# Altium footprint library halcyxn_lib_pcb.PcbLib: 35 footprints (part 1 of 3)
Each footprint in its own frame and in the unit in brackets; x right, y up, seen from the top. Pads: shape width x height; smd on the part's side, far side on the other; paste and mask are expansions set on the pad; w line width, h text height; cw(c..) or ccw(c..) is an arc to the next point about the centre after c.
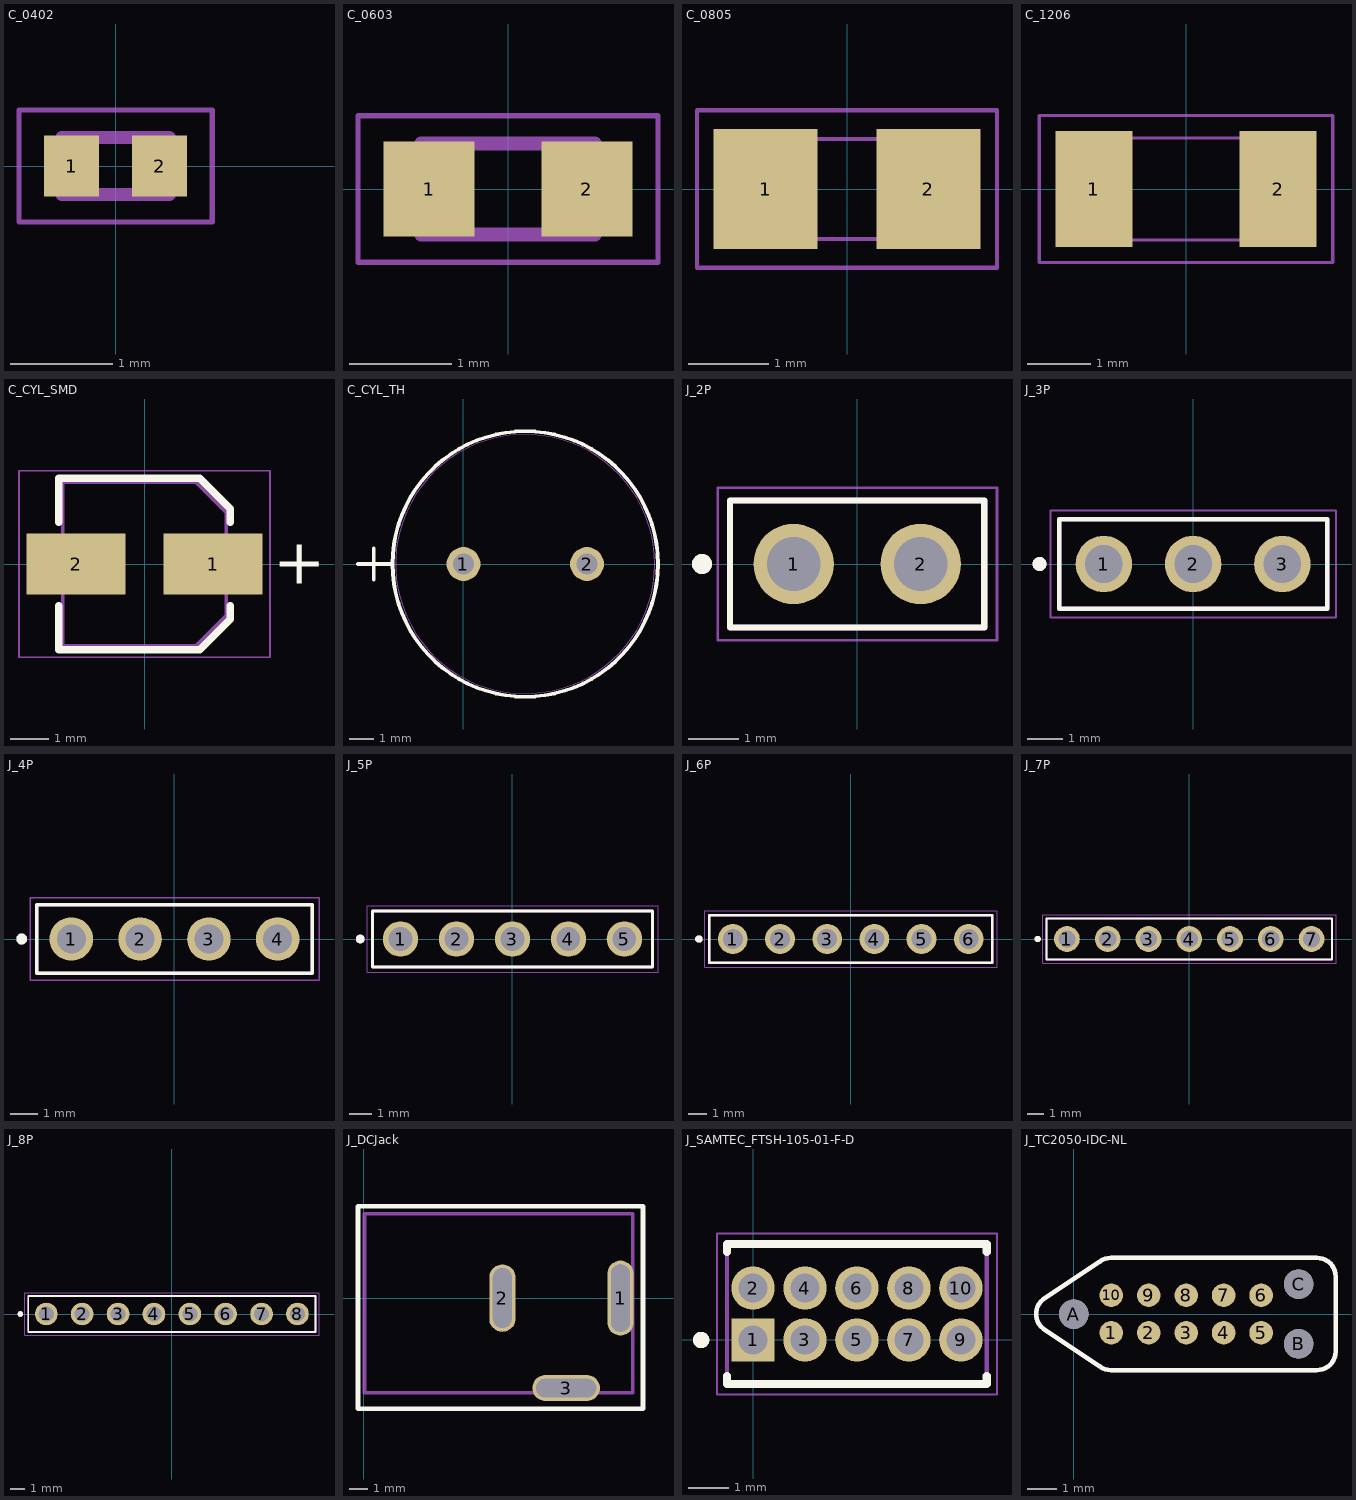
[diagram p0: the footprints below, top view; thin cyan lines are the x and y axes]

## C_0402 [mm]
pads (2):
  rect 0.54x0.6 smd: 1(-0.432,0) 2(0.432,0)
Top Overlay:
Top Component Outline:
  lines w0.051: -0.5,-0.25 0.5,-0.25 0.5,0.25 -0.5,0.25 -0.5,-0.25
Mechanical 13:
  lines w0.127: -0.53,-0.28 -0.53,0.28 0.53,0.28 0.53,-0.28 -0.53,-0.28
Mechanical 15:
  lines w0.05: -0.95,-0.55 -0.95,0.55 0.95,0.55 0.95,-0.55 -0.95,-0.55
3D body "step_temp.STEP": height 0.55, standoff 0, extent -0.5,-0.25 0.5,0.25

## C_0603 [mm]
pads (2):
  rect 0.89x0.93 smd: 1(-0.77,0) 2(0.77,0)
Top Component Outline:
  lines w0.051: -0.8,-0.4 0.8,-0.4 0.8,0.4 -0.8,0.4 -0.8,-0.4
Mechanical 13:
  lines w0.127: -0.85,-0.45 0.85,-0.45 0.85,0.45 -0.85,0.45 -0.85,-0.45
Mechanical 15:
  lines w0.05: -1.465,-0.715 1.465,-0.715 1.465,0.715 -1.465,0.715 -1.465,-0.715
3D body "GCM188R71H102KA37D.step": height 0.9, standoff 0, extent -0.8,-0.4 0.8,0.4

## C_0805 [mm]
pads (2):
  rect 1.3x1.5 smd: 1(-1.016,0) 2(1.016,0)
Top Component Outline:
  lines w0.05: -1,-0.625 1,-0.625 1,0.625 -1,0.625 -1,-0.625
Mechanical 15:
  lines w0.051: -1.873,-0.983 1.873,-0.983 1.873,0.983 -1.873,0.983 -1.873,-0.983
3D body "GCM21BR71H104KA37K.step": height 1.43, standoff -0.02, extent -1,-0.625 1,0.625

## C_1206 [mm]
pads (2):
  rect 1.21x1.82 smd: 1(-1.45,0) 2(1.45,0)
Top Component Outline:
  lines w0.05: -1.6,-0.8 -1.6,0.8 1.6,0.8 1.6,-0.8 -1.6,-0.8
Mechanical 15:
  lines w0.05: -2.308,-1.158 -2.308,1.158 2.308,1.158 2.308,-1.158 -2.308,-1.158
3D body "step_temp.STEP": height 1.8, standoff 0, extent -1.6,-0.8 1.6,0.8

## C_CYL_SMD [mm]
pads (2):
  rect 2.6x1.6 smd: 1(1.8,0) 2(-1.8,0)
Top Overlay:
  lines w0.2: -2.25,-1.1 -2.25,-2.25 1.45,-2.25 2.25,-1.45 2.25,-1.1 ; -2.25,1.1 -2.25,2.25 1.45,2.25 2.25,1.45 2.25,1.1
  text "+" at 3.386,-0.514 h1.2
Top Designator:
  lines w0.1: -2.15,-2.15 1.35,-2.15 2.15,-1.35 2.15,1.35 1.35,2.15 -2.15,2.15 -2.15,-2.15
Top Component Outline:
  lines w0.1: -2.15,-2.15 1.35,-2.15 2.15,-1.35 2.15,1.35 1.35,2.15 -2.15,2.15 -2.15,-2.15
Mechanical 15:
  lines w0.05: -3.3,-2.45 -3.3,2.45 3.3,2.45 3.3,-2.45 -3.3,-2.45
3D body "4x5.5x1.stp": height 5.5, standoff 0, extent -2.5,-2.15 2.5,2.15

## C_CYL_TH [mil] "Cylindrical capacitor, through-hole, 2-lead, polarized"
pads (2):
  round 54 / inner round 60 / far side round 54 hole 34 paste-99999 mask+0: 1(0,0) 2(196.85,0)
Top Overlay:
  circle w6: c98.43,0 r211.5
  lines w6: -168.07,0 -118.07,0 ; -143.07,-25 -143.07,25
Mechanical 13:
  circle w0: c98.43,0 r206.5
  lines w1: -168.07,0 -118.07,0 ; -143.07,-25 -143.07,25
3D body "CAP_YX_10X16_RUB.step": height 551.61, standoff -172.01, extent -108.55,-215.19 305.4,196.85

## J_2P [mm] "2-pin Dupont header"
height 9.64
pads (2):
  round 1.605 hole 1.07: 1(-1.27,0) 2(1.27,0)
Top Overlay:
  circle w0.2: c-3.1,0 r0.1
  lines w0.127: -2.54,-1.27 -2.54,1.27 2.54,1.27 2.54,-1.27 -2.54,-1.27
Mechanical 13:
  circle w0.2: c-3.1,0 r0.1
  lines w0.127: -2.54,-1.27 -2.54,1.27 2.54,1.27 2.54,-1.27 -2.54,-1.27
Mechanical 15:
  lines w0.05: -2.79,-1.52 -2.79,1.52 2.794,1.52 2.794,-1.52 -2.79,-1.52

## J_3P [mm] "3-pin Dupont header"
height 9.64
pads (3):
  round 1.605 hole 1.07: 1(-2.54,0) 2(0,0) 3(2.54,0)
Top Overlay:
  circle w0.2: c-4.37,0 r0.1
  lines w0.127: -3.81,-1.27 -3.81,1.27 3.81,1.27 3.81,-1.27 -3.81,-1.27
Mechanical 13:
  circle w0.2: c-4.37,0 r0.1
  lines w0.127: -3.81,-1.27 -3.81,1.27 3.81,1.27 3.81,-1.27 -3.81,-1.27
Mechanical 15:
  lines w0.05: -4.06,-1.52 -4.06,1.52 4.064,1.52 4.064,-1.52 -4.06,-1.52

## J_4P [mm] "4-pin Dupont header"
height 9.64
pads (4):
  round 1.605 hole 1.07: 1(-3.81,0) 2(-1.27,0) 3(1.27,0) 4(3.81,0)
Top Overlay:
  circle w0.2: c-5.64,0 r0.1
  lines w0.127: -5.08,-1.27 5.08,-1.27 5.08,1.27 -5.08,1.27 -5.08,-1.27
Mechanical 13:
  circle w0.2: c-5.64,0 r0.1
  lines w0.127: -5.08,-1.27 5.08,-1.27 5.08,1.27 -5.08,1.27 -5.08,-1.27
Mechanical 15:
  lines w0.05: -5.33,-1.52 5.334,-1.52 5.334,1.52 -5.33,1.52 -5.33,-1.52

## J_5P [mm] "5-pin Dupont header"
height 9.64
pads (5):
  round 1.605 hole 1.07: 1(-5.08,0) 2(-2.54,0) 3(0,0) 4(2.54,0) 5(5.08,0)
Top Overlay:
  circle w0.2: c-6.91,0 r0.1
  lines w0.127: -6.35,-1.27 -6.35,1.27 6.35,1.27 6.35,-1.27 -6.35,-1.27
Mechanical 13:
  circle w0.2: c-6.91,0 r0.1
  lines w0.127: -6.35,-1.27 -6.35,1.27 6.35,1.27 6.35,-1.27 -6.35,-1.27
Mechanical 15:
  lines w0.05: -6.6,-1.52 -6.6,1.52 6.604,1.52 6.604,-1.52 -6.6,-1.52

## J_6P [mm] "6-pin Dupont header"
height 9.64
pads (6):
  round 1.605 hole 1.07: 1(-6.35,0) 2(-3.81,0) 3(-1.27,0) 4(1.27,0) 5(3.81,0) 6(6.35,0)
Top Overlay:
  circle w0.2: c-8.18,0 r0.1
  lines w0.127: -7.62,-1.27 7.62,-1.27 7.62,1.27 -7.62,1.27 -7.62,-1.27
Mechanical 13:
  circle w0.2: c-8.18,0 r0.1
  lines w0.127: -7.62,-1.27 7.62,-1.27 7.62,1.27 -7.62,1.27 -7.62,-1.27
Mechanical 15:
  lines w0.05: -7.87,-1.52 7.874,-1.52 7.874,1.52 -7.87,1.52 -7.87,-1.52

## J_7P [mm] "7-pin Dupont header"
height 9.64
pads (7):
  round 1.605 hole 1.07: 1(-7.62,0) 2(-5.08,0) 3(-2.54,0) 4(0,0) 5(2.54,0) 6(5.08,0) 7(7.62,0)
Top Overlay:
  circle w0.2: c-9.45,0 r0.1
  lines w0.127: -8.89,-1.27 8.89,-1.27 8.89,1.27 -8.89,1.27 -8.89,-1.27
Mechanical 13:
  circle w0.2: c-9.45,0 r0.1
  lines w0.127: -8.89,-1.27 8.89,-1.27 8.89,1.27 -8.89,1.27 -8.89,-1.27
Mechanical 15:
  lines w0.05: -9.14,-1.52 9.144,-1.52 9.144,1.52 -9.14,1.52 -9.14,-1.52

## J_8P [mm] "8-pin Dupont header"
height 9.64
pads (8):
  round 1.605 hole 1.07: 1(-8.89,0) 2(-6.35,0) 3(-3.81,0) 4(-1.27,0) 5(1.27,0) 6(3.81,0) 7(6.35,0) 8(8.89,0)
Top Overlay:
  circle w0.2: c-10.72,0 r0.1
  lines w0.127: -10.16,-1.27 10.16,-1.27 10.16,1.27 -10.16,1.27 -10.16,-1.27
Mechanical 13:
  circle w0.2: c-10.72,0 r0.1
  lines w0.127: -10.16,-1.27 10.16,-1.27 10.16,1.27 -10.16,1.27 -10.16,-1.27
Mechanical 15:
  lines w0.05: -10.41,-1.52 10.414,-1.52 10.414,1.52 -10.41,1.52 -10.41,-1.52

## J_DCJack [mm] "Circular DC Barrel Jack socket, 3-pin"
pads (3):
  rrect100% 1.4x4 hole 1 slot 3.6 at 90 deg: 1(13.7,0)
  rrect100% 1.4x3.6 hole 1 slot 3.2 at 90 deg: 2(7.4,0)
  rrect100% 3.6x1.4 hole 1 slot 3.2 at 0 deg: 3(10.8,-4.8)
Top Overlay:
  lines w0.254: -0.3,-5.9 14.9,-5.9 14.9,4.9 -0.3,4.9 -0.3,-5.9
Top Component Outline:
  lines w0.2: 0.05,-5.05 0.05,4.5 14.35,4.5 14.35,-5.05 0.05,-5.05
3D body "DCJ200-10-A-K1-K--3DModel-STEP-740395.STEP": height 11, standoff -3.5, extent 0.05,-5.05 14.35,4.5

## J_SAMTEC_FTSH-105-01-F-D [mm]
pads (10):
  rect 1.06x1.06 hole 0.71 mask+0.044: 1(0,0)
  round 1.06 hole 0.71 mask+0.044: 2(0,1.27) 3(1.27,0) 4(1.27,1.27) 5(2.54,0) 6(2.54,1.27) 7(3.81,0) 8(3.81,1.27) 9(5.08,0) 10(5.08,1.27)
Top Overlay:
  circle w0.2: c-1.27,0 r0.1
  lines w0.2: -0.635,-0.88 -0.635,-1.08 5.715,-1.08 5.715,-0.88 ; -0.635,2.15 -0.635,2.35 5.715,2.35 5.715,2.15
Mechanical 13:
  circle w0.2: c-1.27,0 r0.1
  lines w0.1: -0.635,-1.08 5.715,-1.08 5.715,2.35 -0.635,2.35 -0.635,-1.08
Mechanical 15:
  lines w0.05: -0.885,-1.33 5.965,-1.33 5.965,2.6 -0.885,2.6 -0.885,-1.33
3D body "step_temp.STEP": height 5.56, standoff -2.29, extent -0.635,-1.079 5.715,2.349

## J_TC2050-IDC-NL [mm]
pads (13):
  round 0.8 smd paste-0.9: 1(1.27,-0.635) 2(2.54,-0.635) 3(3.81,-0.635) 4(5.08,-0.635) 5(6.35,-0.635) 6(6.35,0.635) 7(5.08,0.635) 8(3.81,0.635) 9(2.54,0.635) 10(1.27,0.635)
  round 1 hole 1 unplated paste-2539.97: A(0,0) B(7.62,-1.016) C(7.62,1.016)
Top Overlay:
  lines w0.152: -1.028,-0.507 cw(c-0.647,0.001) -1.028,0.509 0.877,1.779 cw(c1.258,1.271) 1.258,1.906 8.243,1.906 cw(c8.243,1.271) 8.878,1.271 8.878,-1.269 cw(c8.243,-1.269) 8.243,-1.904 1.258,-1.904 cw(c1.258,-1.269) 0.877,-1.777 -1.028,-0.507
Mechanical 1:
  lines w0.152: -1.016,-0.508 cw(c-0.635,0) -1.016,0.508 0.889,1.778 cw(c1.27,1.27) 1.27,1.905 8.255,1.905 cw(c8.255,1.27) 8.89,1.27 8.89,-1.27 cw(c8.255,-1.27) 8.255,-1.905 1.27,-1.905 cw(c1.27,-1.27) 0.889,-1.778 -1.016,-0.508